# Altium schematic symbol library Tantanum-Capacitor.SchLib: 1 symbol
Pins are listed as number, name and electrical type; pins without a type are passive.

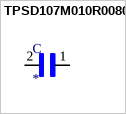
[diagram p0: symbol TPSD107M010R0080]

## TPSD107M010R0080
designator C
100ÂµF Molded Tantalum Capacitors 10V 2917 _7343 Metric_ 80mOhm; MP: TPSD107M010R0080; MF: AVX; Value: *; SnapEDA_Link: https://www.snapeda.com/parts/TPSD107M010R0080/AVX/view-part/607646/?ref=snap; Digi-Key_Purchase_URL: https://www.digikey.com/product-detail/en/avx-corporation/TPSD107M010R0080/478-4097-1-ND/1164433?utm_source=snapeda&utm_medium=aggregator&utm_campaign=symbol; Package: 2917 AVX; Digi-Key_Part_Number: 478-4097-1-ND
footprint CAPPM7343X310N
pins: 1, 2